# Altium footprint library blecontrollerPCB1_master.PcbLib: 180 footprints (part 1 of 12)
Each footprint in its own frame and in the unit in brackets; x right, y up, seen from the top. Pads: shape width x height; smd on the part's side, far side on the other; paste and mask are expansions set on the pad; w line width, h text height; cw(c..) or ccw(c..) is an arc to the next point about the centre after c.
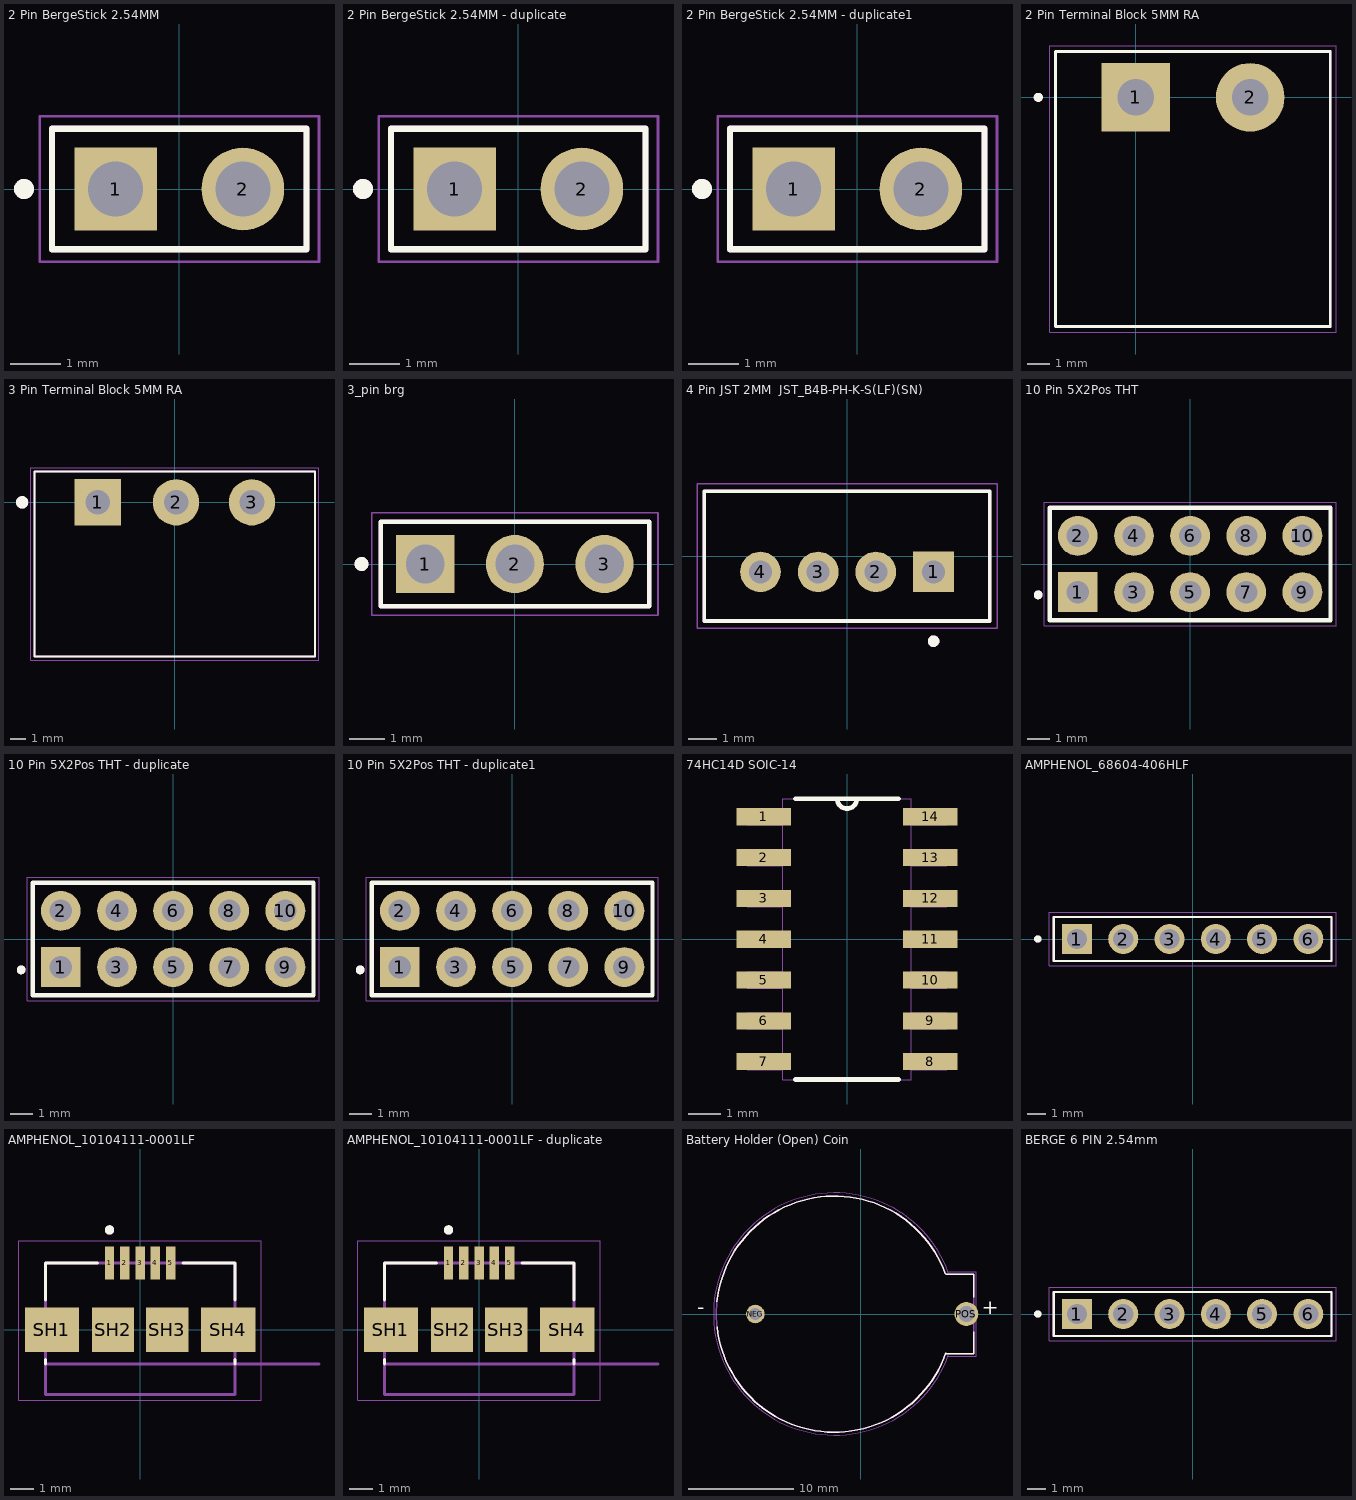
[diagram p0: the footprints below, top view; thin cyan lines are the x and y axes]

## 2 Pin BergeStick 2.54MM [mm] "2 Pin 2Pos THT BergeStick 2.54MM Amphenol 68000-402HLF 3A AMPHENOL_68000-402HLF"
height 10.8
pads (2):
  rect 1.65x1.65 hole 1.1: 1(-1.27,0)
  round 1.65 hole 1.1: 2(1.27,0)
Top Overlay:
  circle w0.2: c-3.1,0 r0.1
  lines w0.127: -2.54,-1.205 -2.54,1.205 2.54,1.205 2.54,-1.205 -2.54,-1.205
Mechanical 13:
  circle w0.2: c-3.1,0 r0.1
  lines w0.127: -2.54,-1.205 -2.54,1.205 2.54,1.205 2.54,-1.205 -2.54,-1.205
Mechanical 15:
  lines w0.05: -2.79,-1.455 -2.79,1.455 2.79,1.455 2.79,-1.455 -2.79,-1.455
3D body "step_temp.STEP": height 8.39, standoff -2.41, extent -2.54,-1.205 2.54,1.205

## 2 Pin BergeStick 2.54MM - duplicate [mm] "2 Pin 2Pos THT BergeStick 2.54MM Amphenol 68000-402HLF 3A AMPHENOL_68000-402HLF"
height 10.8
pads (2):
  rect 1.65x1.65 hole 1.1: 1(-1.27,0)
  round 1.65 hole 1.1: 2(1.27,0)
Top Overlay:
  circle w0.2: c-3.1,0 r0.1
  lines w0.127: -2.54,-1.205 2.54,-1.205 2.54,1.205 -2.54,1.205 -2.54,-1.205
Mechanical 13:
  circle w0.2: c-3.1,0 r0.1
  lines w0.127: -2.54,-1.205 2.54,-1.205 2.54,1.205 -2.54,1.205 -2.54,-1.205
Mechanical 15:
  lines w0.05: -2.79,-1.455 2.79,-1.455 2.79,1.455 -2.79,1.455 -2.79,-1.455
3D body "step_temp.STEP": height 8.39, standoff -2.41, extent -2.54,-1.205 2.54,1.205

## 2 Pin BergeStick 2.54MM - duplicate1 [mm] "2 Pin 2Pos THT BergeStick 2.54MM Amphenol 68000-402HLF 3A AMPHENOL_68000-402HLF"
height 10.8
pads (2):
  rect 1.65x1.65 hole 1.1: 1(-1.27,0)
  round 1.65 hole 1.1: 2(1.27,0)
Top Overlay:
  circle w0.2: c-3.1,0 r0.1
  lines w0.127: -2.54,-1.205 -2.54,1.205 2.54,1.205 2.54,-1.205 -2.54,-1.205
Mechanical 13:
  circle w0.2: c-3.1,0 r0.1
  lines w0.127: -2.54,-1.205 -2.54,1.205 2.54,1.205 2.54,-1.205 -2.54,-1.205
Mechanical 15:
  lines w0.05: -2.79,-1.455 -2.79,1.455 2.79,1.455 2.79,-1.455 -2.79,-1.455
3D body "step_temp.STEP": height 8.39, standoff -2.41, extent -2.54,-1.205 2.54,1.205

## 2 Pin Terminal Block 5MM RA [mm] "2 Pin Terminal Block HDR 5MM THT RA_OQ0271510000G"
height 8.5
pads (2):
  rect 3x3 hole 1.6: 1(0,0)
  round 3 hole 1.6: 2(5,0)
Top Overlay:
  circle w0.2: c-4.25,0 r0.1
  lines w0.127: -3.5,-10 -3.5,2 8.5,2 8.5,-10 -3.5,-10
Mechanical 13:
  circle w0.2: c-4.25,0 r0.1
  lines w0.127: -3.5,-10 -3.5,2 8.5,2 8.5,-10 -3.5,-10
Mechanical 15:
  lines w0.05: -3.75,-10.25 -3.75,2.25 8.75,2.25 8.75,-10.25 -3.75,-10.25
3D body "step_temp.STEP": height 8.5, standoff -3.5, extent -3.5,-10 8.5,2

## 3 Pin Terminal Block 5MM RA [mm] "3 Pin Terminal Block HDR 5MM THT RA 231-433_001-000"
pads (3):
  rect 3x3 hole 1.6: 1(-5,0)
  round 3 hole 1.6: 2(0.08,0) 3(5,0)
Top Overlay:
  circle w0.4: c-9.91,0 r0.2
  lines w0.127: -9.1,-10 9.1,-10 9.1,2 -9.1,2 -9.1,-10
Mechanical 13:
  circle w0.4: c-9.906,0 r0.2
  lines w0.127: -9.1,-10 -9.1,2 9.1,2 9.1,-10 -9.1,-10
Mechanical 15:
  lines w0.05: -9.35,-10.25 9.35,-10.25 9.35,2.25 -9.35,2.25 -9.35,-10.25
3D body "2342079-3--3DModel-STEP-1.STEP": height 8.97, standoff -2.28, extent -8.418,-10.064 8.382,1.936

## 3_pin brg [mm] "3_pin brg 2.54mm"
height 8.58
pads (3):
  rect 1.65x1.65 / inner round 1.65 / far side rect 1.65x1.65 hole 1.1: 1(-2.54,0)
  round 1.65 hole 1.1: 2(0,0) 3(2.54,0)
Top Overlay:
  circle w0.2: c-4.35,0 r0.1
  lines w0.127: -3.81,-1.205 -3.81,1.205 3.81,1.205 3.81,-1.205 -3.81,-1.205
Mechanical 13:
  circle w0.2: c-4.35,0 r0.1
  lines w0.127: -3.81,-1.205 -3.81,1.205 3.81,1.205 3.81,-1.205 -3.81,-1.205
Mechanical 15:
  lines w0.05: -4.06,-1.455 -4.06,1.455 4.06,1.455 4.06,-1.455 -4.06,-1.455
3D body "step_temp.STEP": height 8.38, standoff -3.05, extent -3.81,-1.205 3.81,1.205

## 4 Pin JST 2MM  JST_B4B-PH-K-S(LF)(SN) [mm]
pads (4):
  rect 1.408x1.408 hole 0.8: 1(3,-0.55)
  round 1.408 hole 0.8: 2(1,-0.55) 3(-1,-0.55) 4(-3,-0.55)
Top Overlay:
  circle w0.2: c3,-2.95 r0.1
  lines w0.127: -4.95,-2.25 4.95,-2.25 4.95,2.25 -4.95,2.25 -4.95,-2.25
Mechanical 13:
  circle w0.2: c3,-2.95 r0.1
  lines w0.127: -4.95,-2.25 -4.95,2.25 4.95,2.25 4.95,-2.25 -4.95,-2.25
Mechanical 15:
  lines w0.05: -5.2,-2.5 -5.2,2.5 5.2,2.5 5.2,-2.5 -5.2,-2.5
3D body "step_temp.STEP": height 6, standoff -3.4, extent -4.95,-2.25 4.95,2.25

## 10 Pin 5X2Pos THT [mm] "10 Pin 5X2Pos THT BergeStick 2.54MM MTSW-105-X-X-D-X"
pads (10):
  rect 1.8x1.8 hole 1.02: 1(-5.08,-1.27)
  round 1.8 hole 1.02: 2(-5.08,1.27) 3(-2.54,-1.27) 4(-2.54,1.27) 5(0,-1.27) 6(0,1.27) 7(2.54,-1.27) 8(2.54,1.27) 9(5.08,-1.27) 10(5.08,1.27)
Top Overlay:
  circle w0.2: c-6.873,-1.397 r0.1
  lines w0.2: -6.35,-2.54 -6.35,2.54 6.35,2.54 6.35,-2.54 -6.35,-2.54
Mechanical 13:
  circle w0.2: c-6.873,-1.397 r0.1
  lines w0.1: -6.35,-2.54 6.35,-2.54 6.35,2.54 -6.35,2.54 -6.35,-2.54
Mechanical 15:
  lines w0.05: -6.6,-2.79 -6.6,2.79 6.6,2.79 6.6,-2.79 -6.6,-2.79

## 10 Pin 5X2Pos THT - duplicate [mm]
pads (10):
  rect 1.8x1.8 hole 1.02: 1(-5.08,-1.27)
  round 1.8 hole 1.02: 2(-5.08,1.27) 3(-2.54,-1.27) 4(-2.54,1.27) 5(0,-1.27) 6(0,1.27) 7(2.54,-1.27) 8(2.54,1.27) 9(5.08,-1.27) 10(5.08,1.27)
Top Overlay:
  circle w0.2: c-6.873,-1.397 r0.1
  lines w0.2: -6.35,-2.54 6.35,-2.54 6.35,2.54 -6.35,2.54 -6.35,-2.54
Mechanical 13:
  circle w0.2: c-6.873,-1.397 r0.1
  lines w0.1: -6.35,-2.54 -6.35,2.54 6.35,2.54 6.35,-2.54 -6.35,-2.54
Mechanical 15:
  lines w0.05: -6.6,-2.79 6.6,-2.79 6.6,2.79 -6.6,2.79 -6.6,-2.79

## 10 Pin 5X2Pos THT - duplicate1 [mm]
pads (10):
  rect 1.8x1.8 hole 1.02: 1(-5.08,-1.27)
  round 1.8 hole 1.02: 2(-5.08,1.27) 3(-2.54,-1.27) 4(-2.54,1.27) 5(0,-1.27) 6(0,1.27) 7(2.54,-1.27) 8(2.54,1.27) 9(5.08,-1.27) 10(5.08,1.27)
Top Overlay:
  circle w0.2: c-6.873,-1.397 r0.1
  lines w0.2: -6.35,-2.54 6.35,-2.54 6.35,2.54 -6.35,2.54 -6.35,-2.54
Mechanical 13:
  circle w0.2: c-6.873,-1.397 r0.1
  lines w0.1: -6.35,-2.54 -6.35,2.54 6.35,2.54 6.35,-2.54 -6.35,-2.54
Mechanical 15:
  lines w0.05: -6.6,-2.79 6.6,-2.79 6.6,2.79 -6.6,2.79 -6.6,-2.79

## 74HC14D SOIC-14 [mil] "Inverter IC 6 Channel Schmitt Trigger 14-SO/SOIC-14"
pads (14):
  rect 67x21 smd: 1(-102,150) 2(-102,100) 3(-102,50) 4(-102,0) 5(-102,-50) 6(-102,-100) 7(-102,-150) 8(102,-150) 9(102,-100) 10(102,-50) 11(102,0) 12(102,50) 13(102,100) 14(102,150)
Top Overlay:
  lines w6: -63,-172 63,-172 ; -63,172 -12,172 ; 63,172 12,172 ; -12,172 ccw(c0,172) 12,172 ; -12,172 12,172
Mechanical 13:
  lines w0: -12,172 ccw(c0,172) 12,172 ; -12,172 12,172 ; -12,172 -79,172 -79,-172 79,-172 79,172 12,172 ; -122,-160 -122,-140 -79,-140 -79,-160 -122,-160 ; -122,-110 -122,-90 -79,-90 -79,-110 -122,-110 ; -122,-60 -122,-40 -79,-40 -79,-60 -122,-60 ; -122,-10 -122,10 -79,10 -79,-10 -122,-10 ; -122,40 -122,60 -79,60 -79,40 -122,40 ; -122,90 -122,110 -79,110 -79,90 -122,90 ; -122,140 -122,160 -79,160 -79,140 -122,140 ; 79,-160 79,-140 122,-140 122,-160 79,-160 ; 79,-110 79,-90 122,-90 122,-110 79,-110 ; 79,-60 79,-40 122,-40 122,-60 79,-60 ; 79,-10 79,10 122,10 122,-10 79,-10 ; 79,40 79,60 122,60 122,40 79,40 ; 79,90 79,110 122,110 122,90 79,90 ; 79,140 79,160 122,160 122,140 79,140
3D body "step_temp.STEP": height 68.9, standoff 0, extent -118.11,-170.28 118.11,170.28

## AMPHENOL_68604-406HLF [mm]
height 12.198
pads (6):
  rect 1.65x1.65 / inner round 1.65 / far side rect 1.65x1.65 hole 1.1: 1(-6.35,0)
  round 1.65 hole 1.1: 2(-3.81,0) 3(-1.27,0) 4(1.27,0) 5(3.81,0) 6(6.35,0)
Top Overlay:
  circle w0.2: c-8.5,0 r0.1
  lines w0.127: -7.62,-1.205 7.62,-1.205 7.62,1.205 -7.62,1.205 -7.62,-1.205
Mechanical 13:
  circle w0.2: c-8.5,0 r0.1
  lines w0.127: -7.62,-1.205 7.62,-1.205 7.62,1.205 -7.62,1.205 -7.62,-1.205
Mechanical 15:
  lines w0.05: -7.87,-1.455 -7.87,1.455 7.87,1.455 7.87,-1.455 -7.87,-1.455
3D body "step_temp.STEP": height 12.19, standoff -3.05, extent -7.62,-1.205 7.62,1.205

## AMPHENOL_10104111-0001LF [mm]
pads (9):
  rect 0.4x1.4 smd: 1(-1.3,2.85) 2(-0.65,2.85) 3(0,2.85) 4(0.65,2.85) 5(1.3,2.85)
  rect 2.3x1.9 smd: SH1(-3.75,0) SH4(3.75,0)
  rect 1.8x1.9 smd: SH2(-1.15,0) SH3(1.15,0)
Top Overlay:
  circle w0.2: c-1.3,4.25 r0.1
  lines w0.127: -4.03,-1.45 -4.03,-1.27 ; -4.03,1.27 -4.03,2.85 -1.82,2.85 ; 1.82,2.85 4.03,2.85 4.03,1.27 ; 4.03,-1.45 4.03,-1.27
Mechanical 13:
  circle w0.2: c-1.3,4.25 r0.1
  lines w0.127: 7.61,-1.45 4.03,-1.45 ; -4.03,-1.45 4.03,-1.45 ; -4.03,-1.45 -4.03,2.85 4.03,2.85 4.03,-1.45 ; -4.03,-1.45 -4.03,-2.75 4.03,-2.75 4.03,-1.45
  text "PCB Edge" at 6.096,-1.143 h0.81
Mechanical 15:
  lines w0.05: -5.15,-3 -5.15,3.8 5.15,3.8 5.15,-3 -5.15,-3
3D body "step_temp.STEP": height 1.39, standoff -1.68, extent -4.4,-4.117 4.4,1.509

## AMPHENOL_10104111-0001LF - duplicate [mm]
pads (9):
  rect 0.4x1.4 smd: 1(-1.3,2.85) 2(-0.65,2.85) 3(0,2.85) 4(0.65,2.85) 5(1.3,2.85)
  rect 2.3x1.9 smd: SH1(-3.75,0) SH4(3.75,0)
  rect 1.8x1.9 smd: SH2(-1.15,0) SH3(1.15,0)
Top Overlay:
  circle w0.2: c-1.3,4.25 r0.1
  lines w0.127: -4.03,-1.45 -4.03,-1.27 ; -4.03,1.27 -4.03,2.85 -1.82,2.85 ; 1.82,2.85 4.03,2.85 4.03,1.27 ; 4.03,-1.45 4.03,-1.27
Mechanical 13:
  circle w0.2: c-1.3,4.25 r0.1
  lines w0.127: 7.61,-1.45 4.03,-1.45 ; -4.03,-1.45 4.03,-1.45 ; -4.03,-1.45 -4.03,2.85 4.03,2.85 4.03,-1.45 ; -4.03,-1.45 -4.03,-2.75 4.03,-2.75 4.03,-1.45
  text "PCB Edge" at 6.096,-1.143 h0.81
Mechanical 15:
  lines w0.05: -5.15,-3 -5.15,3.8 5.15,3.8 5.15,-3 -5.15,-3
3D body "step_temp.STEP": height 1.39, standoff -1.68, extent -4.4,-4.117 4.4,1.509

## Battery Holder (Open) Coin [mm] "Battery Holder (Open) Coin"
pads (2):
  round 1.755 hole 1.17: NEG(-10,0)
  round 2.25 hole 1.5: POS(10,0)
Top Overlay:
  lines w0.127: -13.633,1.155 cw(c-2.509,-0.014) 8.002,3.811 ; -13.629,-1.194 ccw(c-2.514,-0.026) 8.054,-3.664 ; 8.024,-3.75 10.699,-3.75 10.7,-1.7 ; 8.024,3.75 10.7,3.75 10.7,1.6
  text "-" at -15.526,0 h1.42
  text "+" at 11.474,0 h1.42
Mechanical 13:
  lines w0.127: 7.997,-3.825 cw(c-2.513,0) 7.997,3.825 ; 8.024,-3.75 10.699,-3.75 10.699,3.75 8.024,3.75
  text "-" at -15.526,0 h1.42
  text "+" at 11.474,0 h1.42
Mechanical 15:
  lines w0.05: 8.274,-4 10.949,-4 10.949,4 8.274,4 ; 8.301,-3.926 cw(c-2.485,0) 8.301,3.926
3D body "BS-7-RED--3DModel-STEP-56544.STEP": height 8.74, standoff -3.35, extent -13.843,-11.303 10.541,11.049

## BERGE 6 PIN 2.54mm [mm] "BERGE 6 PIN 2.54mm, AMPHENOL_68604-406HLF"
height 12.198
pads (6):
  rect 1.65x1.65 / inner round 1.65 / far side rect 1.65x1.65 hole 1.1: 1(-6.35,0)
  round 1.65 hole 1.1: 2(-3.81,0) 3(-1.27,0) 4(1.27,0) 5(3.81,0) 6(6.35,0)
Top Overlay:
  circle w0.2: c-8.5,0 r0.1
  lines w0.127: -7.62,-1.205 -7.62,1.205 7.62,1.205 7.62,-1.205 -7.62,-1.205
Mechanical 13:
  circle w0.2: c-8.5,0 r0.1
  lines w0.127: -7.62,-1.205 -7.62,1.205 7.62,1.205 7.62,-1.205 -7.62,-1.205
Mechanical 15:
  lines w0.05: -7.87,-1.455 7.87,-1.455 7.87,1.455 -7.87,1.455 -7.87,-1.455
3D body "step_temp.STEP": height 12.19, standoff -3.05, extent -7.62,-1.205 7.62,1.205